# Altium footprint library ClassD-DemoBoard-PCB.PcbLib: 11 footprints
Each footprint in its own frame and in the unit in brackets; x right, y up, seen from the top. Pads: shape width x height; smd on the part's side, far side on the other; paste and mask are expansions set on the pad; w line width, h text height; cw(c..) or ccw(c..) is an arc to the next point about the centre after c.
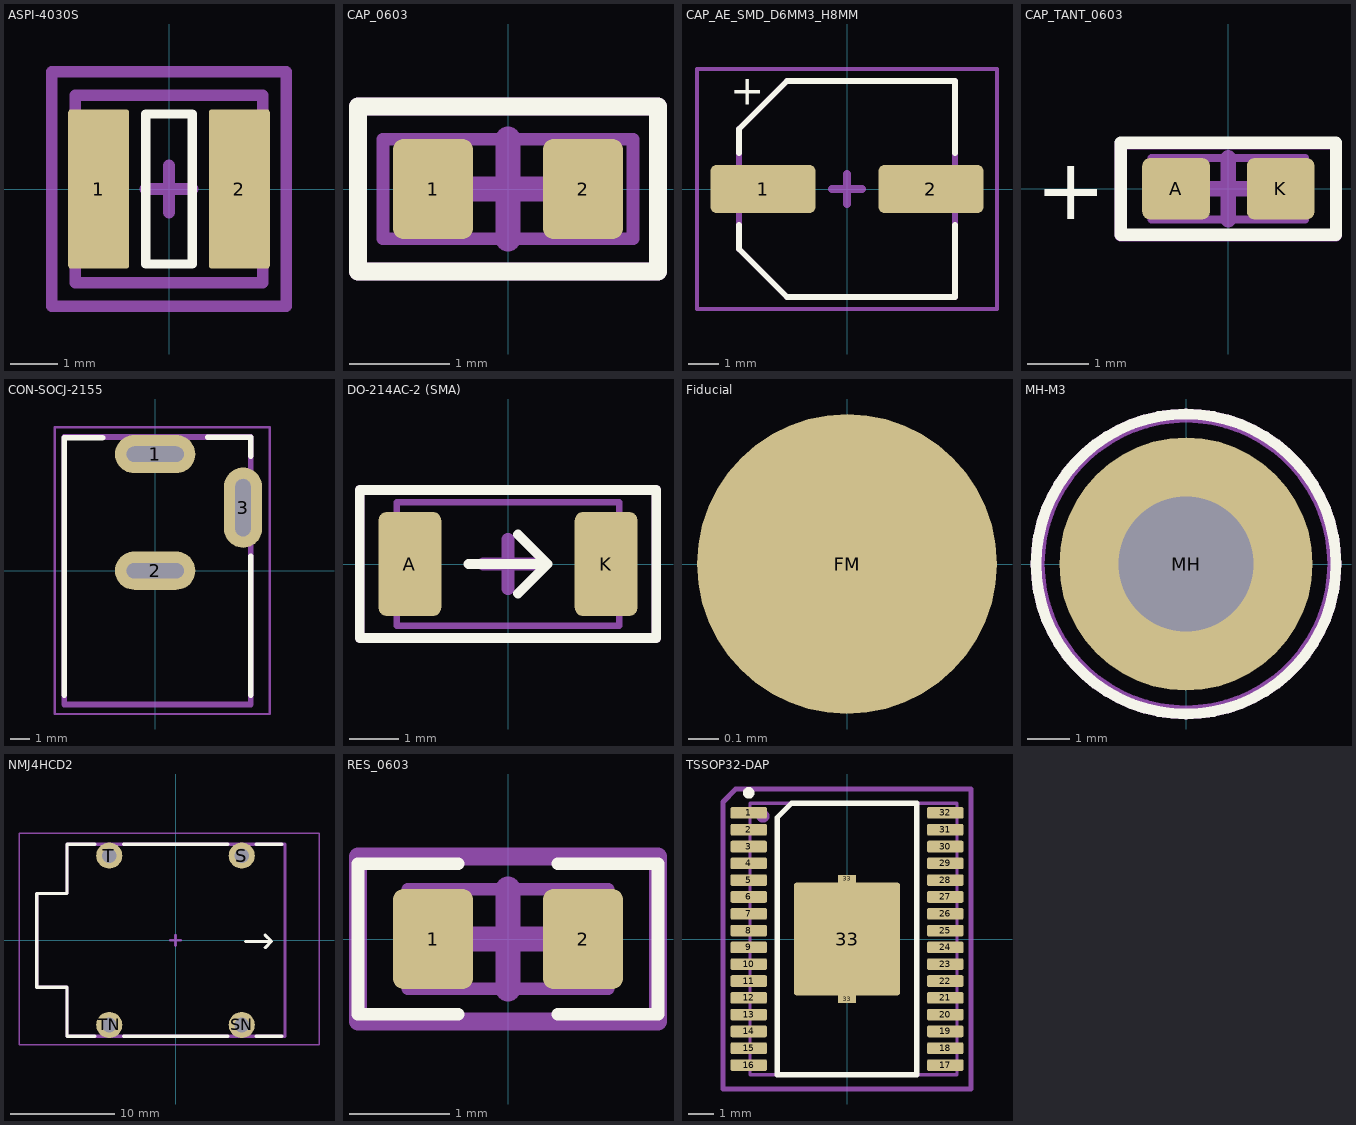
[diagram p0: the footprints below, top view; thin cyan lines are the x and y axes]

## ASPI-4030S [mm]
height 2.35
pads (2):
  rrect10% 1.3x3.4 smd: 1(-1.5,0) 2(1.5,0)
Top Overlay:
  lines w0.2: -0.5,-1.6 -0.5,1.6 0.5,1.6 0.5,-1.6 -0.5,-1.6
Top Component Center:
  lines w0.254: -0.5,0 0,0 ; 0,-0.5 0,0 ; 0.5,0 0,0 ; 0,0 0,0.5 0,0
Top Assembly:
  lines w0.25: -2,-2 -2,2 2,2 2,-2 -2,-2
  text ".Designator" at -7.246,-4.238 h1.52
Top Courtyard:
  lines w0.25: -2.5,-2.5 2.5,-2.5 2.5,2.5 -2.5,2.5 -2.5,-2.5
3D body "ASPI-4030S.STEP": height 3.01, standoff 0.01, extent -2,-2 2,2

## CAP_0603 [mm]
height 2.35
pads (2):
  rrect25% 0.8x1 smd: 1(-0.75,0) 2(0.75,0)
Top Overlay:
  lines w0.175: -1.5,-0.825 1.5,-0.825 1.5,0.825 -1.5,0.825 -1.5,-0.825
Top Component Center:
  lines w0.254: -0.5,0 0,0 ; 0,-0.5 0,0 ; 0.5,0 0,0 ; 0,0 0,0.5 0,0
Top Assembly:
  lines w0.125: -1.25,-0.5 -1.25,0.5 1.25,0.5 1.25,-0.5 -1.25,-0.5
  text "'.Designator'" at -5.665,-2.917 h1
Top Courtyard:
  lines w0.175: -1.5,-0.825 1.5,-0.825 1.5,0.825 -1.5,0.825 -1.5,-0.825
3D body "C0603.step": height 0.51, standoff 0.01, extent -0.8,-0.4 0.8,0.4

## CAP_AE_SMD_D6MM3_H8MM [mm]
height 8
pads (2):
  rrect25% 3.5x1.6 smd: 1(-2.8,0) 2(2.8,0)
Top Overlay:
  lines w0.2: -3.6,-1.2 -3.6,-2 -2,-3.6 3.6,-3.6 3.6,-1.2 ; -3.6,1.2 -3.6,2 -2,3.6 3.6,3.6 3.6,1.2
  text "+" at -3.889,2.802 h1
Top Component Center:
  lines w0.254: -0.5,0 0,0 ; 0,-0.5 0,0 ; 0.5,0 0,0 ; 0,0 0,0.5 0,0
Top Assembly:
  lines w0.2: -3.6,-2 -3.6,2 -2,3.6 3.6,3.6 3.6,-3.6 -2,-3.6 -3.6,-2
  text ".Designator" at -5.248,-5.833 h1
  text "+" at -3.889,2.802 h1
Top Courtyard:
  lines w0.125: -5,-4 -5,4 5,4 5,-4 -5,-4
3D body "EDK227M016A9HAA.step": height 8.02, standoff 0.01, extent -3.8,-3.4 3.8,3.4

## CAP_TANT_0603 [mm]
height 2.35
pads (2):
  rrect25% 1.1x1 smd: A(-0.85,0) K(0.85,0)
Top Overlay:
  lines w0.2: -1.75,-0.75 -1.75,0.75 1.75,0.75 1.75,-0.75 -1.75,-0.75
  text "+" at -3.127,-0.5 h1
Top Component Center:
  lines w0.254: -0.5,0 0,0 ; 0,-0.5 0,0 ; 0.5,0 0,0 ; 0,0 0,0.5 0,0
Top Assembly:
  lines w0.125: -1.25,-0.5 -1.25,0.5 1.25,0.5 1.25,-0.5 -1.25,-0.5
  text ".Designator" at -5.248,-2.583 h1
  text "+" at -1.333,1 h1
Top Courtyard:
  lines w0.2: -1.749,-0.758 -1.749,0.742 1.751,0.742 1.751,-0.758 -1.749,-0.758
3D body "CAP_TANT_0603.step": height 0.91, standoff 0.01, extent -0.9,-0.525 0.9,0.525

## CON-SOCJ-2155 [mm]
pads (3):
  oval 4.2x2 hole 0.8 slot 3 at 0 deg: 1(0,6.1) 2(0,0)
  oval 2x4.2 hole 0.8 slot 3 at 90 deg: 3(4.6,3.3)
Top Overlay:
  lines w0.3: -4.75,-6.5 -4.75,6.95 -2.75,6.95 ; 2.75,6.976 5,6.976 5,6 ; 5,-6.5 5,0.75
Top Component Center:
  lines w0.254: -0.5,0 0,0 ; 0,-0.5 0,0 ; 0.5,0 0,0 ; 0,0 0,0.5 0,0
Top Assembly:
  lines w0.3: -4.75,-7 -4.75,7 5,7 5,-7 -4.75,-7
  text "'.Designator'" at -5.665,-0.417 h1
Top Courtyard:
  lines w0.125: -5.25,-7.5 -5.25,7.5 6,7.5 6,-7.5 -5.25,-7.5
3D body "CON-SOCJ-2155.STEP": height 11.11, standoff -4.28, extent -4.5,-7.5 4.75,6.6

## DO-214AC-2 (SMA) [mm]
height 2.35
pads (2):
  rrect25% 1.27x2.1 smd: A(-1.985,0) K(1.985,0)
Top Overlay:
  lines w0.2: -0.8,0 0.8,0 ; 0.2,-0.6 0.8,0 ; 0.2,0.6 0.8,0 ; 0.8,0 0.8,0 ; -3,-1.5 -3,1.5 3,1.5 3,-1.5 -3,-1.5
Top Component Center:
  lines w0.254: -0.5,0 0,0 ; 0,-0.5 0,0 ; 0.5,0 0,0 ; 0,0 0,0.5 0,0
Top Assembly:
  lines w0.125: -2.25,-1.25 -2.25,1.25 2.25,1.25 2.25,-1.25 -2.25,-1.25
  text "'.Designator'" at -5.84,-3.675 h1
Top Courtyard:
  lines w0.2: -3,-1.5 -3,1.5 3,1.5 3,-1.5 -3,-1.5
3D body "DO-214AC_SMA.step": height 2.42, standoff 0.01, extent -2.6,-1.3 2.6,1.3

## Fiducial [mm] "Fiducial"
pads (1):
  round 1 smd paste-1 mask+1: FM(0,0)

## MH-M3 [mm] "Mounting Hole"
pads (1):
  round 6 hole 3.2: MH(0,0)
Top Overlay:
  circle w0.254: c0,0 r3.553
Top Assembly:
  circle w0.254: c0,0 r3.553
  text "'.Designator'" at -9,-6.75 h1.52
Top Courtyard:
  circle w0.254: c0,0 r3.473

## NMJ4HCD2 [mm]
height 2.35
pads (4):
  round 2.5 hole 1.4: S(6.35,8.115) SN(6.35,-8.115) T(-6.35,8.115) TN(-6.35,-8.115)
Top Overlay:
  lines w0.2: 9.2,-0.1 9.2,-0.1 ; 9.2,-0.1 9.2,-0.1
  lines w0.3: -7.7,-9.2 -10.4,-9.2 -10.4,-4.5 -13.3,-4.5 -13.3,4.5 -10.5,4.5 -10.4,4.5 -10.4,9.2 -7.7,9.2 ; -5,-9.2 5,-9.2 ; -5,9.2 5,9.2 ; 6.7,-0.1 9.2,-0.1 ; 7.7,-9.2 10.2,-9.2 ; 7.7,9.2 10.2,9.2 ; 8.6,-0.7 9.2,-0.1 ; 8.6,0.5 9.2,-0.1
Top Component Center:
  lines w0.254: -0.5,0 0,0 ; 0,-0.5 0,0 ; 0.5,0 0,0 ; 0,0 0,0.5 0,0
Top Assembly:
  lines w0.3: -13.3,-4.5 -13.3,4.5 -10.5,4.5 -10.4,4.5 -10.4,9.2 10.5,9.2 10.5,-9.2 -10.4,-9.2 -10.4,-4.5 -13.3,-4.5
  text "'.Designator'" at -5.665,-0.417 h1
Top Courtyard:
  lines w0.125: -15,-10 13.75,-10 13.75,10.25 -15,10.25 -15,-10
3D body "NMJ4HCD20.stp": height 15.68, standoff -3.98, extent -13.18,-9.1 13.35,9.1

## RES_0603 [mm]
height 2.35
pads (2):
  rrect25% 0.8x1 smd: 1(-0.75,0) 2(0.75,0)
Top Overlay:
  lines w0.125: -0.5,-0.75 -1.5,-0.75 -1.5,0.75 -0.5,0.75 ; 0.5,-0.75 1.5,-0.75 1.5,0.75 0.5,0.75
Top Component Center:
  lines w0.254: -0.5,0 0,0 ; 0,-0.5 0,0 ; 0.5,0 0,0 ; 0,0 0,0.5 0,0
Top Assembly:
  lines w0.125: -1,-0.5 -1,0.5 1,0.5 1,-0.5 -1,-0.5
  text "'.Designator'" at -5.665,-2.417 h1
Top Courtyard:
  lines w0.175: -1.5,-0.825 1.5,-0.825 1.5,0.825 -1.5,0.825 -1.5,-0.825
3D body "R0603.step": height 0.52, standoff 0.01, extent -0.8,-0.43 0.8,0.43

## TSSOP32-DAP [mm] "TSOP, 32-Leads, Body 11.00x6.10mm, Pitch 0.65mm, IPC Medium Density"
height 1.15
pads (35):
  rrect25% 1.4x0.45 smd mask+0.14: 1(-3.8,4.875) 2(-3.8,4.225) 3(-3.8,3.575) 4(-3.8,2.925) 5(-3.8,2.275) 6(-3.8,1.625) 7(-3.8,0.975) 8(-3.8,0.325) 9(-3.8,-0.325) 10(-3.8,-0.975) 11(-3.8,-1.625) 12(-3.8,-2.275) 13(-3.8,-2.925) 14(-3.8,-3.575) 15(-3.8,-4.225) 16(-3.8,-4.875) 17(3.8,-4.875) 18(3.8,-4.225) 19(3.8,-3.575) 20(3.8,-2.925) 21(3.8,-2.275) 22(3.8,-1.625) 23(3.8,-0.975) 24(3.8,-0.325) 25(3.8,0.325) 26(3.8,0.975) 27(3.8,1.625) 28(3.8,2.275) 29(3.8,2.925) 30(3.8,3.575) 31(3.8,4.225) 32(3.8,4.875)
  rrect5% 0.7x0.3 smd mask+0.14: 33(0,-2.325) 33(0,2.325)
  rrect5% 4.11x4.36 smd mask+0.14: 33(0,0)
Top Overlay:
  circle w0.25: c-3.8,5.65 r0.1
  lines w0.2: -2.7,-5.25 2.7,-5.25 2.7,5.25 -2.15,5.25 -2.7,4.7 -2.7,-5.25
Top Component Center:
  lines w0.254: -0.5,0 0,0 ; 0,-0.5 0,0 ; 0.5,0 0,0 ; 0,0 0,0.5 0,0
Top Assembly:
  circle w0.3: c-3.25,4.75 r0.1
  lines w0.125: -3.75,-5.25 4.25,-5.25 4.25,5.25 -3.75,5.25 -3.75,-5.25
  text "'.Designator'" at -6.315,-1.4 h1
Top Courtyard:
  lines w0.2: -4.8,-5.8 -4.8,5.3 -4.3,5.8 4.8,5.8 4.8,-5.8 -4.8,-5.8
3D body "TSSOP32-DAD.step": height 1.15, standoff 0, extent -4.05,-5.55 4.05,5.55